# EAGLE library part STECKER_SIEMENS_MS42 (library k-data Mechanik)
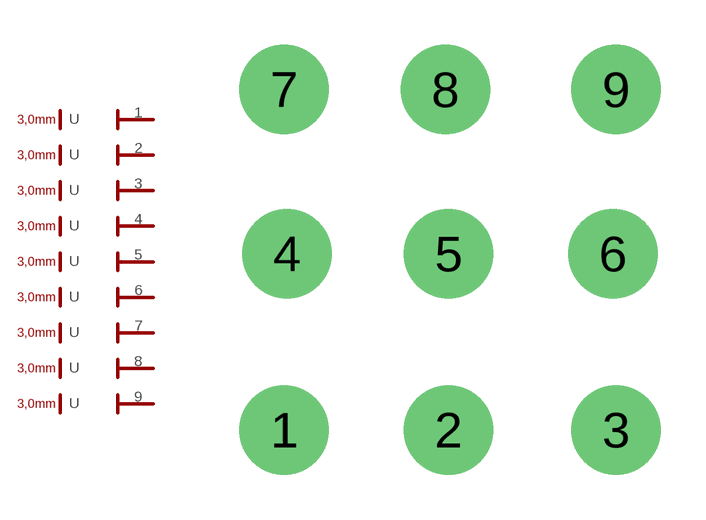
[diagram p13: symbol with the pads of STECKER_SIEMENS_MS42; footprint STECKER_SIEMENS_MS42]

Designator prefix -; gates PIN_001=CONNECTOR-3,0MM PIN_002=CONNECTOR-3,0MM PIN_003=CONNECTOR-3,0MM PIN_004=CONNECTOR-3,0MM PIN_005=CONNECTOR-3,0MM PIN_006=CONNECTOR-3,0MM PIN_007=CONNECTOR-3,0MM PIN_008=CONNECTOR-3,0MM PIN_009=CONNECTOR-3,0MM

## STECKER_SIEMENS_MS42  [STECKER_SIEMENS_MS42]
1  PIN_001:1
2  PIN_002:1
3  PIN_003:1
4  PIN_004:1
5  PIN_005:1
6  PIN_006:1
7  PIN_007:1
8  PIN_008:1
9  PIN_009:1

## Footprint STECKER_SIEMENS_MS42 (pad centres in mm)
drill 2 pad 2.54: 1 26.87,13.97; 2 32.37,13.97; 3 37.97,13.97; 4 26.97,19.87; 5 32.37,19.87; 6 37.87,19.87; 7 26.87,25.37; 8 32.27,25.37; 9 37.97,25.37